# EAGLE library part CON-SD-CARD_MICROSD- (library 52101-101-REV-A_v16 v5)
microSD Connector
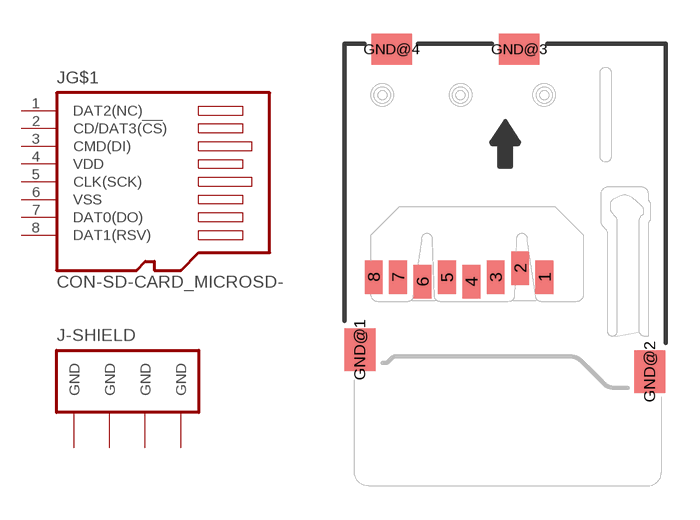
[diagram p13: symbol with the pads of CON-SD-CARD_2908-05; footprint CON-SD-CARD_2908-05]

Designator prefix J; gates -SHIELD=CON-SD-CARD_GND_SHEILD4 G$1=CON-SD-CARD_SD-MICRO-8PIN

## CON-SD-CARD_MICROSD-2908-05  [CON-SD-CARD_2908-05]
1  G$1:DAT2(NC)
2  G$1:CD/DAT3(!CS!)
3  G$1:CMD(DI)
4  G$1:VDD
5  G$1:CLK(SCK)
6  G$1:VSS
7  G$1:DAT0(DO)
8  G$1:DAT1(RSV)
GND@1  -SHIELD:GND  pas
GND@2  -SHIELD:GND  pas
GND@3  -SHIELD:GND  pas
GND@4  -SHIELD:GND  pas

## Footprint CON-SD-CARD_2908-05 (pad centres in mm)
2900 Series microSD 3M
smd 0.8 x 1.5: 1 1.761,3.847; 2 0.669,4.253; 3 -0.423,3.847; 4 -1.515,3.644; 5 -2.607,3.847; 6 -3.7,3.644; 7 -4.792,3.847; 8 -5.884,3.847
smd 1.397 x 1.905: GND@1 -6.5,0.6; GND@2 6.473,-0.389
smd 1.803 x 1.397: GND@3 0.631,14.059; GND@4 -5.084,14.059